# Altium footprint library 220VAC-12.PcbLib: 1 footprints
Each footprint in its own frame and in the unit in brackets; x right, y up, seen from the top. Pads: shape width x height; smd on the part's side, far side on the other; paste and mask are expansions set on the pad; w line width, h text height; cw(c..) or ccw(c..) is an arc to the next point about the centre after c.
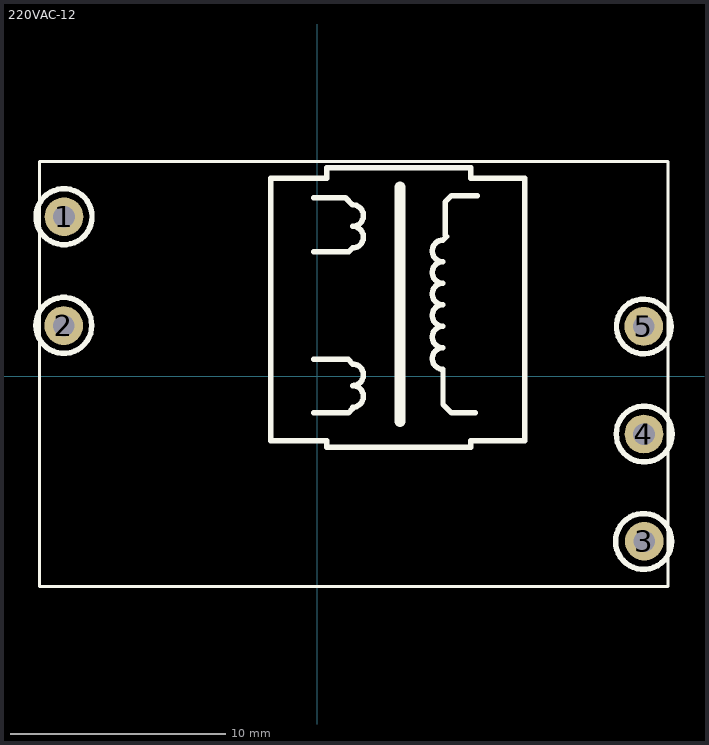
[diagram p0: the footprint, top view; thin cyan lines are the x and y axes]

## 220VAC-12 [mm]
pads (5):
  round 1.8 hole 1: 1(-11.759,7.416) 2(-11.769,2.356) 3(15.201,-7.664) 4(15.191,-2.684) 5(15.181,2.316)
Top Overlay:
  circle w0.254: c15.181,2.316 r1.271
  circle w0.254: c15.201,-2.684 r1.3
  circle w0.254: c15.171,-7.674 r1.3
  circle w0.254: c-11.759,7.416 r1.3
  circle w0.254: c-11.769,2.366 r1.3
  lines w0.15: -12.899,-9.764 -12.899,9.976 16.301,9.976 16.301,-9.764 -12.899,-9.764
  lines w0.254: -0.149,-1.704 1.451,-1.704 1.651,-1.504 1.651,-1.434 ccw(c1.651,-0.934) 1.651,-0.434 ccw(c1.651,0.066) 1.651,0.566 1.451,0.796 -0.149,0.796 ; -0.149,5.796 1.481,5.796 1.651,5.966 ccw(c1.651,6.466) 1.651,6.966 ccw(c1.651,7.466) 1.651,7.966 1.321,8.296 -0.149,8.296 ; 7.351,-1.704 6.251,-1.704 5.851,-1.304 5.851,0.326 cw(c5.851,0.826) 5.851,1.326 cw(c5.851,1.826) 5.851,2.326 cw(c5.851,2.826) 5.851,3.326 cw(c5.851,3.826) 5.851,4.326 cw(c5.851,4.826) 5.851,5.326 cw(c5.851,5.826) 5.851,6.326 6.022,6.496 5.951,6.566 5.951,8.096 6.251,8.396 7.451,8.396 ; 7.151,9.696 7.151,9.196 8.951,9.196 9.651,9.196 9.651,-3.004 8.951,-3.004 8.651,-3.004 7.151,-3.004 7.151,-3.304 6.851,-3.304 0.551,-3.304 0.451,-3.304 0.451,-3.004 -1.349,-3.004 -2.149,-3.004 -2.149,9.196 0.451,9.196 0.451,9.696 0.951,9.696 7.151,9.696 ; 7.151,9.696 7.151,9.696
  lines w0.5: 3.851,-2.104 3.851,8.796